# Altium footprint library XTAL_GEN.PcbLib: 1 footprints
Each footprint in its own frame and in the unit in brackets; x right, y up, seen from the top. Pads: shape width x height; smd on the part's side, far side on the other; paste and mask are expansions set on the pad; w line width, h text height; cw(c..) or ccw(c..) is an arc to the next point about the centre after c.
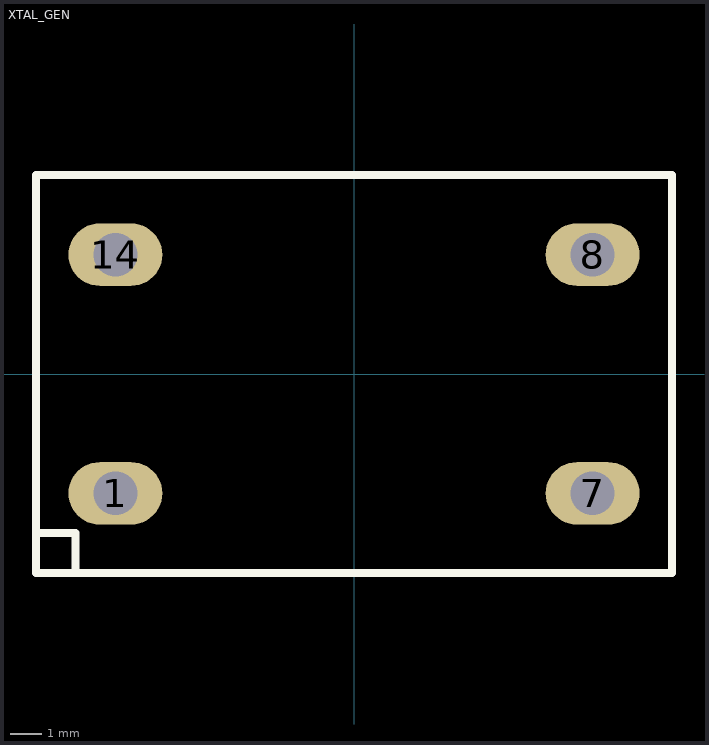
[diagram p0: the footprint, top view; thin cyan lines are the x and y axes]

## XTAL_GEN [mm]
pads (4):
  oval 3x2 hole 1.4: 1(-7.62,-3.81) 7(7.62,-3.81) 8(7.62,3.81) 14(-7.62,3.81)
Top Overlay:
  lines w0.254: -10.16,-5.08 -8.89,-5.08 -8.89,-6.35 ; -10.16,-6.35 -10.16,6.35 2.54,6.35 10.16,6.35 10.16,-6.35 8.89,-6.35 -10.16,-6.35
3D body: height 7.27, standoff -5, extent -10.4,-6.54 10.4,6.54